# Altium schematic symbol library SYNCBOX_V3I1.SCHLIB: 130 symbols (part 4 of 4)
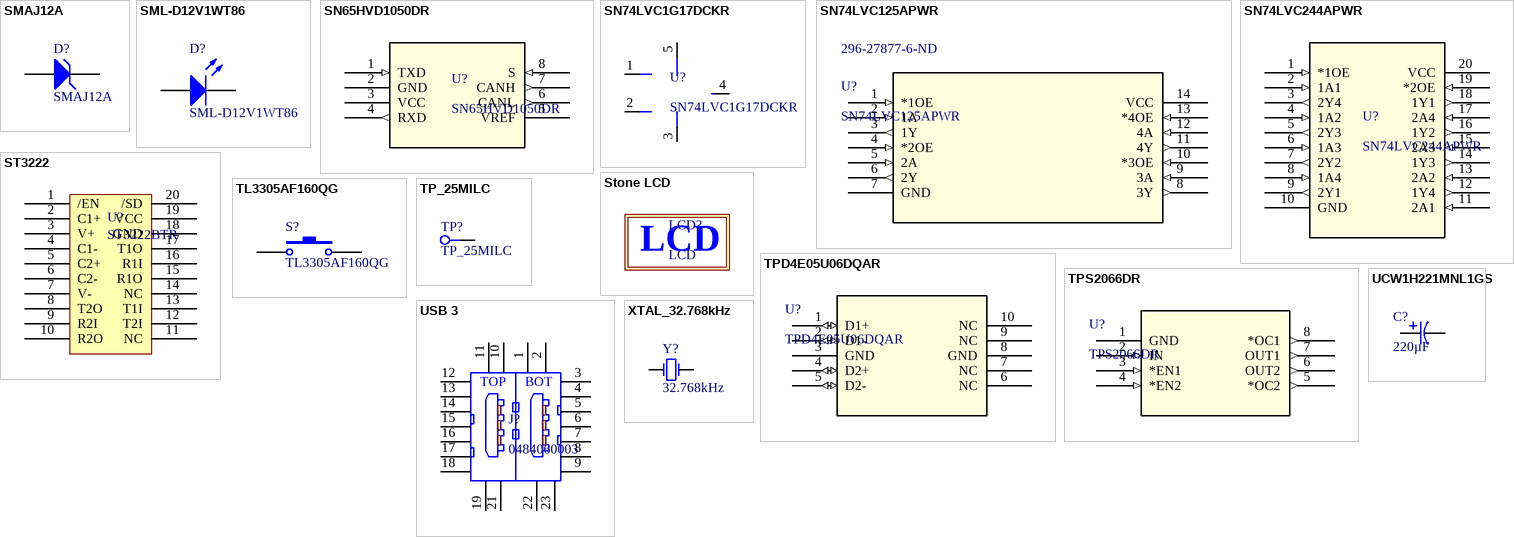
[diagram p6: symbols SMAJ12A to XTAL_32.768kHz]

## TL3305AF160QG
designator S?
SWITCH TACTILE SPST-NO 50MA 12V; Manufacturer 1: E-Switch; Switch Function: Off-Mom; Contact Rating @ Voltage: 0.05A @ 12VDC; Actuator Type: Standard; Actuator Height off PCB, Vertical: 3.80mm; Actuator Orientation: Top Actuated; Outline: 4.50mm x 4.50mm; Illumination: Non-Illuminated; Operating Force: 160gf; Switch Travel: 0.20mm; Mechanical Life: 500,000 Cycles; Manufacturer Part Number 1: TL3305AF160QG; RoHS: RoHS Compliant; Stock 1: 46397; Pricing 1: 1=0.22, 10=0.217, 25=0.2096, 50=0.202, 100=0.1907, 250=0.17952, 500=0.17204, 1000=0.1309 (USD); Packaging: Cut Tape (CT); Part Status: Active; Circuit: SPST-NO; Mounting Type: Surface Mount; Actuator Length, Right Angle: -; Termination Style: Gull Wing; Illumination Type, Color: -; Illumination Voltage (Nominal): -; Ingress Protection: -; Features: -; Operating Temperature: -20°C ~ 70°C; Actuator Material: -; ComponentLink1URL: http://spec_sheets.e-switch.com/specs/P010468.pdf; ComponentLink1Description: http://spec_sheets.e-switch.com/specs/P010468.pdf; Supplier 1: Digi-Key; Supplier Part Number 1: EG5350CT-ND; Description 1: SWITCH TACTILE SPST-NO 50MA 12V; Category: Switches
footprint TactileSW_SMD
pins: 1, 2

## TP_25MILC
designator TP?  (no BOM)
Test Point 25mil
footprint TP_25C
pins: 1

## TPD4E05U06DQAR
designator U?
TVS DIODE 5.5V 14V 10SON; Vendor: Texas Instruments; Built_By: EMA_UL_Team; C: Copyright (C) 2016 Accelerated Designs. All rights reserved; Voltage - Reverse Standoff (Typ): 5.5V (Max); Voltage - Breakdown (Min): 6V; Current - Peak Pulse (10/1000µs): 2.5A (8/20µs); Power - Peak Pulse: 40W; Power Line Protection: Yes; Manufacturer_Part_Number: TPD4E05U06DQAR; RefDes: RefDes; Type: DEV; Value: Value; Manufacturer 1: Texas Instruments; Manufacturer Part Number 1: TPD4E05U06DQAR; RoHS: RoHS Compliant; Stock 1: 74653; Pricing 1: 1=0.66, 10=0.578, 100=0.4433, 500=0.3504, 1000=0.28032 (USD); Packaging: Digi-Reel®; Part Status: Active; Voltage - Clamping (Max) @ Ipp: 14V; Applications: HDMI; Capacitance @ Frequency: -; Operating Temperature: -40°C ~ 125°C (TA); Mounting Type: Surface Mount; Package / Case: 10-UFDFN; Supplier Device Package: 10-USON (2.5x1); Base Part Number: TPD4E05U06; ComponentLink1URL: http://www.ti.com/lit/ds/symlink/tpd4e05u06.pdf; ComponentLink1Description: http://www.ti.com/lit/ds/symlink/tpd4e05u06.pdf; Supplier 1: Digi-Key; Supplier Part Number 1: 296-35765-6-ND; Description 1: TVS DIODE 5.5V 14V 10SON; Category: Circuit Protection
footprint DQA10
pins: 1 D1+ (io), 2 D1- (io), 3 GND (power), 4 D2+ (io), 5 D2- (io), 6 NC, 7 NC, 8 GND (power), 9 NC, 10 NC

## TPS2066DR
designator U?
IC PWR DIST SW DUAL 8SOIC; Vendor: Texas Instruments; Built_By: EMA_UL_Team; C: Copyright (C) 2015 Accelerated Designs. All rights reserved; Switch Type: General Purpose; Number of Outputs: 2; Ratio - Input:Output: 1:2; Output Configuration: High Side; Output Type: N-Channel; Interface: On/Off; Voltage - Load: 2.7 V ~ 5.5 V; Voltage - Supply (Vcc/Vdd): Not Required; Current - Output (Max): 1A; Rds On (Typ): 70 mOhm; Input Type: Non-Inverting; Fault Protection: Current Limiting (Fixed), Over Temperature, UVLO; Manufacturer_Part_Number: TPS2066DR; Manufacturer: Texas Instruments; RefDes: RefDes; Type: DEV; Value: Value; Manufacturer 1: Texas Instruments; Manufacturer Part Number 1: TPS2066DR; RoHS: RoHS Compliant; Stock 1: 12576; Pricing 1: 1=1.87, 10=1.681, 100=1.3514, 500=1.11034, 1000=0.92 (USD); Packaging: Digi-Reel®; Part Status: Active; Features: Status Flag; Operating Temperature: -40°C ~ 125°C (TJ); Package / Case: 8-SOIC (0.154", 3.90mm Width); Supplier Device Package: 8-SOIC; Base Part Number: TPS2066; ComponentLink1URL: http://www.ti.com/lit/ds/symlink/tps2061.pdf; ComponentLink1Description: http://www.ti.com/lit/ds/symlink/tps2061.pdf; Supplier 1: Digi-Key; Supplier Part Number 1: 296-28004-6-ND; Description 1: IC PWR DIST SW DUAL 8SOIC; Category: Integrated Circuits (ICs)
footprint D8
pins: 1 GND (power), 2 IN (in), 3 *EN1 (in), 4 *EN2 (in), 5 *OC2 (out), 6 OUT2 (out), 7 OUT1 (out), 8 *OC1 (out)

## UCW1H221MNL1GS
designator C?, comment 220µF
CAP ALUM 220UF 20% 50V SMD; Manufacturer_Part_Number: UCW1H221MNL1GS; Vendor: Nichicon; Built_By: EMA_UL_Team; Type: DEV; C: Copyright (C) 2015 Accelerated Designs. All rights reserved; Lifetime @ Temp.: 7000 Hrs @ 105°C; Surface Mount Land Size: 0.406" L x 0.406" W (10.30mm x 10.30mm); RefDes: RefDes; Value: Value; Manufacturer 1: Nichicon; Manufacturer Part Number 1: UCW1H221MNL1GS; RoHS: RoHS Compliant; Stock 1: 123623; Pricing 1: 1=0.79, 10=0.559, 100=0.3684 (USD); Packaging: Cut Tape (CT); Part Status: Active; Tolerance: ±20%; ESR (Equivalent Series Resistance): -; Operating Temperature: -25°C ~ 105°C; Polarization: -; Ratings: -; Applications: General Purpose; Lead Spacing: -; Size / Dimension: 0.394" Dia (10.00mm); Height - Seated (Max): 0.394" (10.00mm); Mounting Type: Surface Mount; Package / Case: Radial, Can - SMD; ComponentLink1URL: http://nichicon-us.com/english/products/pdfs/e-ucw.pdf; ComponentLink1Description: http://nichicon-us.com/english/products/pdfs/e-ucw.pdf; Supplier 1: Digi-Key; Supplier Part Number 1: 493-9426-1-ND; Description 1: CAP ALUM 220UF 20% 50V SMD; Category: Capacitors
footprint PCAP_10x10-ELECT
pins: 1, 2

## USB 3
designator J?, comment 0484060003
USB 3.0 RA DUAL REC TH TYPE A; Manufacturer 1: Molex, LLC; Connector Type: USB - A, Stacked; Number of Contacts: 18; Gender: Receptacle; Specifications: USB 3.0 (USB 3.1 Gen 1, Superspeed); Current Rating: 0.25A, 1.8A; Voltage - Rated: 30VAC/DC; Mating Cycles: 5000; Shielding: Shielded; Material Flammability Rating: UL94 HB; Manufacturer Part Number 1: 0484060003; RoHS: RoHS Compliant; Stock 1: 11990; Pricing 1: 1=2.23, 10=2.026, 25=1.902, 50=1.8194, 100=1.7367, 250=1.57132, 500=1.44726, 1000=1.2405, 2500=1.1578 (USD); Packaging: Tray; Part Status: Active; Mounting Type: Through Hole, Right Angle; Mounting Feature: Horizontal; Termination: Solder; Features: Board Lock; Ingress Protection: -; Operating Temperature: -20°C ~ 85°C; Contact Finish: Gold; Shell/Shielding Material: Steel, Stainless; Insulation Color: Blue; ComponentLink1URL: https://www.molex.com/pdm_docs/sd/484060003_sd.pdf; ComponentLink1Description: https://www.molex.com/pdm_docs/sd/484060003_sd.pdf; Description 1: USB 3.0 RA DUAL REC TH TYPE A; Category: Connectors, Interconnects; Supplier 1: Digi-Key; Supplier Part Number 1: WM10420-ND
footprint USB 3 STACK
pins: 1 VBUS1 (power), 2 D1-, 3 D1+, 4 GND (power), 5 SSRX0-, 6 SSRX0+, 7 GND_DRAIN1, 8 SSTX0-, 9 SSTX0+, 10 VBUS2 (power), 11 D2-, 12 D2+, 13 GND (power), 14 SSRX2-, 15 SSRX2+, 16 GND_DRAIN2, 17 SSTX2-, 18 SSTX2+, 19 SHIELD, 21 SHIELD, 22 SHIELD, 23 SHIELD
text: TOP; BOT

## XTAL_32.768kHz
designator Y?, comment 32.768kHz
32768 Hz RTC Crystal; Manufacturer Part Number: AB38T-32.768KHZ; Digikey P/N: 535-9034-ND
footprint XTAL-1.1mm (TH Crystal)
pins: 1 OSC1, 2 OSC2